# Altium footprint library RJK0451DPB-00-J5.PcbLib: 1 footprints
Each footprint in its own frame and in the unit in brackets; x right, y up, seen from the top. Pads: shape width x height; smd on the part's side, far side on the other; paste and mask are expansions set on the pad; w line width, h text height; cw(c..) or ccw(c..) is an arc to the next point about the centre after c.
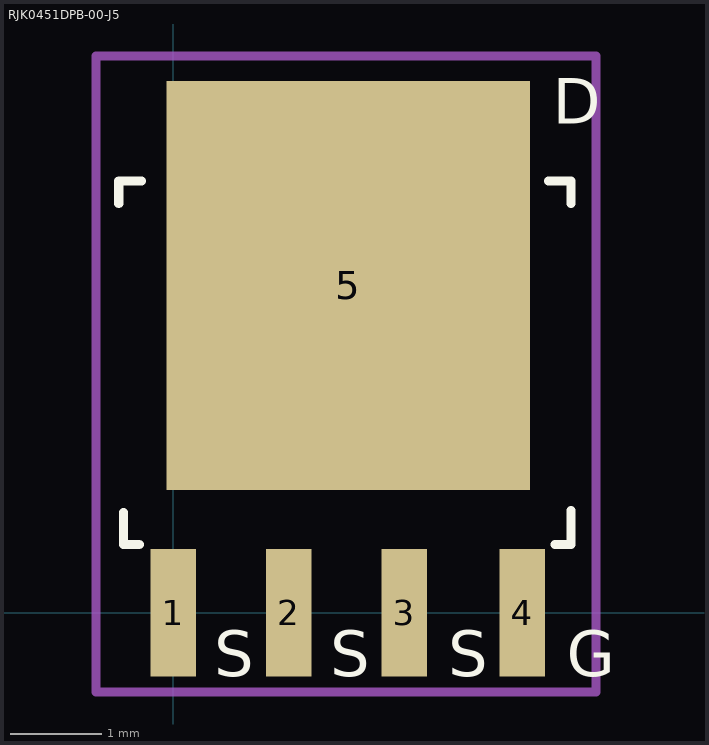
[diagram p0: the footprint, top view; thin cyan lines are the x and y axes]

## RJK0451DPB-00-J5 [mm] "Silicon N Channel Power MOS FET"
height 1.1
pads (5):
  rect 0.5x1.4 smd: 1(0,0) 2(1.27,0) 3(2.54,0) 4(3.84,0)
  rect 4x4.5 smd: 5(1.925,3.6)
Top Overlay:
  lines w0.1: -0.6,4.5 -0.6,4.75 -0.35,4.75 ; -0.55,1.1 -0.55,0.75 -0.375,0.75 ; 4.125,4.75 4.375,4.75 4.375,4.5 ; 4.2,0.75 4.375,0.75 4.375,1.125
  text "S" at 3.025,-0.7 h0.5
  text "S" at 1.725,-0.7 h0.5
  text "S" at 0.45,-0.7 h0.5
  text "G" at 4.325,-0.7 h0.5
  text "D" at 4.175,5.375 h0.5
Mechanical 3:
  lines w0.1: -0.85,-0.875 -0.625,-0.875 4.65,-0.875 4.65,6.125 -0.85,6.125 -0.85,-0.875
3D body: height 1.1, standoff 0.07, extent -0.55,0.75 4.35,4.7